# Altium footprint library PWR_LED.PcbLib: 1 footprints
Each footprint in its own frame and in the unit in brackets; x right, y up, seen from the top. Pads: shape width x height; smd on the part's side, far side on the other; paste and mask are expansions set on the pad; w line width, h text height; cw(c..) or ccw(c..) is an arc to the next point about the centre after c.
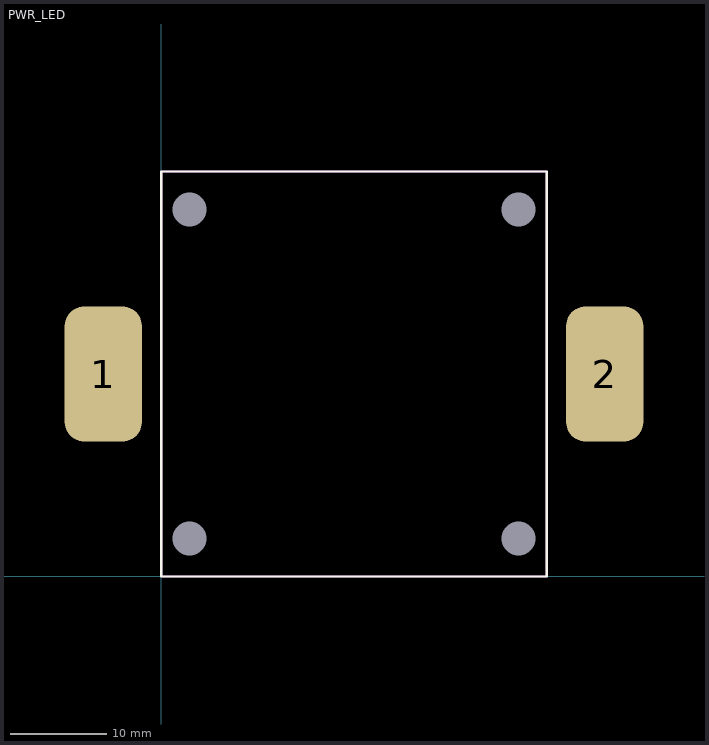
[diagram p0: the footprint, top view; thin cyan lines are the x and y axes]

## PWR_LED [mm]
pads (6):
  rrect50% 8x14 smd: 1(-6,21) 2(46,21)
  round 1.524 hole 3.5 unplated: ""(2.95,3.95) ""(2.95,38.05) ""(37.05,3.95) ""(37.05,38.05)
Top Overlay:
  lines w0.254: 0,0 0,42 40,42 40,0 0,0
Route Tool Path:
  lines w0.254: 0,0 40,0 40,42 0,42 0,0
3D body "Mount LED 100W.SLDPRT": height -0.6, standoff -1.6, extent 0,0 40,42
3D body "LED100W detailed.SLDPRT": height 1.9, standoff -0.9, extent -6,1 46,41
3D body "Luminofor 100W LED.SLDPRT": height 1.1, standoff 0, extent 6.5,7.5 33.5,34.5